# Altium footprint library i18n4.PcbLib: 4 footprints
Each footprint in its own frame and in the unit in brackets; x right, y up, seen from the top. Pads: shape width x height; smd on the part's side, far side on the other; paste and mask are expansions set on the pad; w line width, h text height; cw(c..) or ccw(c..) is an arc to the next point about the centre after c.
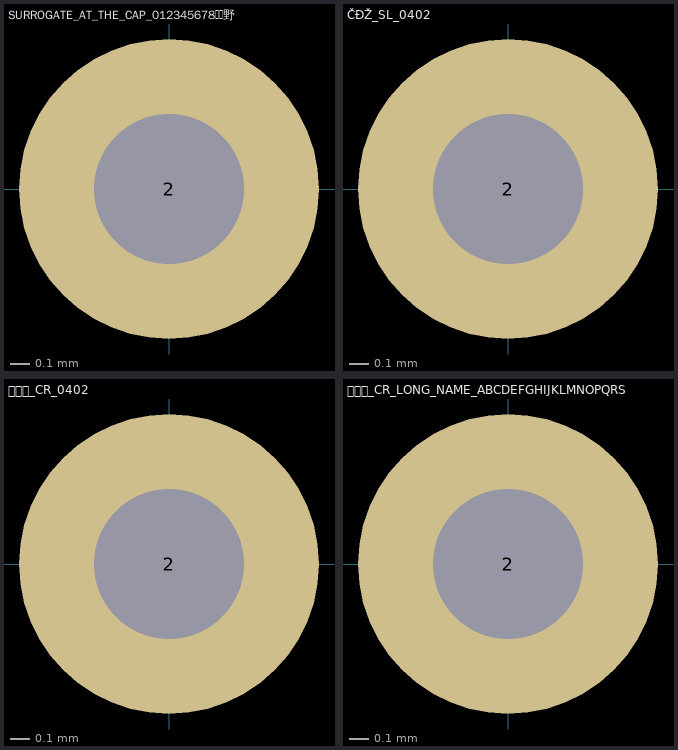
[diagram p0: the footprints below, top view; thin cyan lines are the x and y axes]

## SURROGATE_AT_THE_CAP_012345678??野 [mil] "SURROGATE_AT_THE_CAP_012345678??野"
pads (1):
  round 60 hole 30: 2(0,0)

## ČĐŽ_SL_0402 [mil] "ČĐŽ_SL_0402"
pads (1):
  round 60 hole 30: 2(0,0)

## ᏣᎳᎩ_CR_0402 [mil] "ᏣᎳᎩ_CR_0402"
pads (1):
  round 60 hole 30: 2(0,0)

## ᏣᎳᎩ_CR_LONG_NAME_ABCDEFGHIJKLMNOPQRS [mil] "ᏣᎳᎩ_CR_LONG_NAME_ABCDEFGHIJKLMNOPQRS"
pads (1):
  round 60 hole 30: 2(0,0)